# EAGLE library part КР590КН5 (library yri)
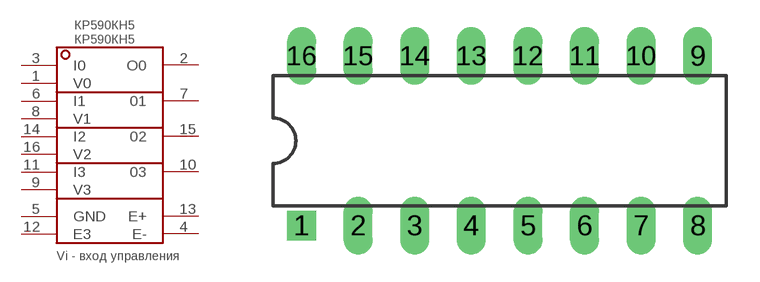
[diagram p3: symbol with the pads of DIL16; footprint DIL16]

Designator prefix U

## КР590КН5  [DIL16]
1  V0
2  O0
3  I0
4  E-
5  GND
6  I1
7  01
8  V1
9  V3
10  03
11  I3
12  E3
13  E+
14  I2
15  02
16  V2

## Footprint DIL16 (pad centres in mm)
Dual In Line Package
drill 0.8 square: 1 -8.89,-3.81
drill 0.8 long: 2 -6.35,-3.81; 3 -3.81,-3.81; 4 -1.27,-3.81; 5 1.27,-3.81; 6 3.81,-3.81; 7 6.35,-3.81; 8 8.89,-3.81; 9 8.89,3.81; 10 6.35,3.81; 11 3.81,3.81; 12 1.27,3.81; 13 -1.27,3.81; 14 -3.81,3.81; 15 -6.35,3.81; 16 -8.89,3.81